# EAGLE library part TC44278MSOP (library MMmosfet)
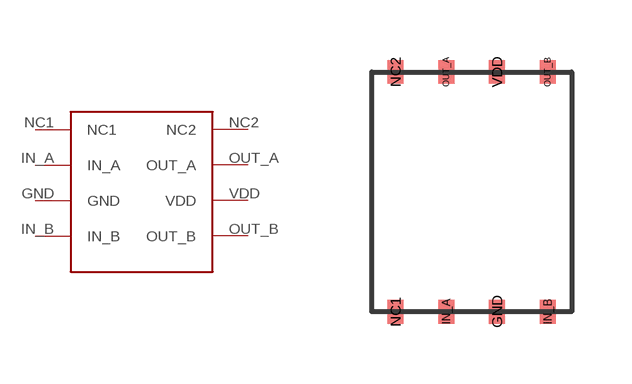
[diagram p0: symbol with the pads of TC44278MSOP; footprint TC44278MSOP]

Designator prefix -

## TC44278MSOP  [TC44278MSOP]
GND  GND
IN_A  IN_A
IN_B  IN_B
NC1  NC1
NC2  NC2
OUT_A  OUT_A
OUT_B  OUT_B
VDD  VDD

## Footprint TC44278MSOP (pad centres in mm)
smd 0.4 x 0.6: GND 0.635,-3; IN_A -0.635,-3; IN_B 1.905,-3; NC1 -1.905,-3; NC2 -1.905,3; OUT_A -0.635,3; OUT_B 1.905,3; VDD 0.635,3